# Altium integrated library Linear Technology Power Management LDO Linear Regulators.IntLib: 2339 symbols (part 109 of 131)
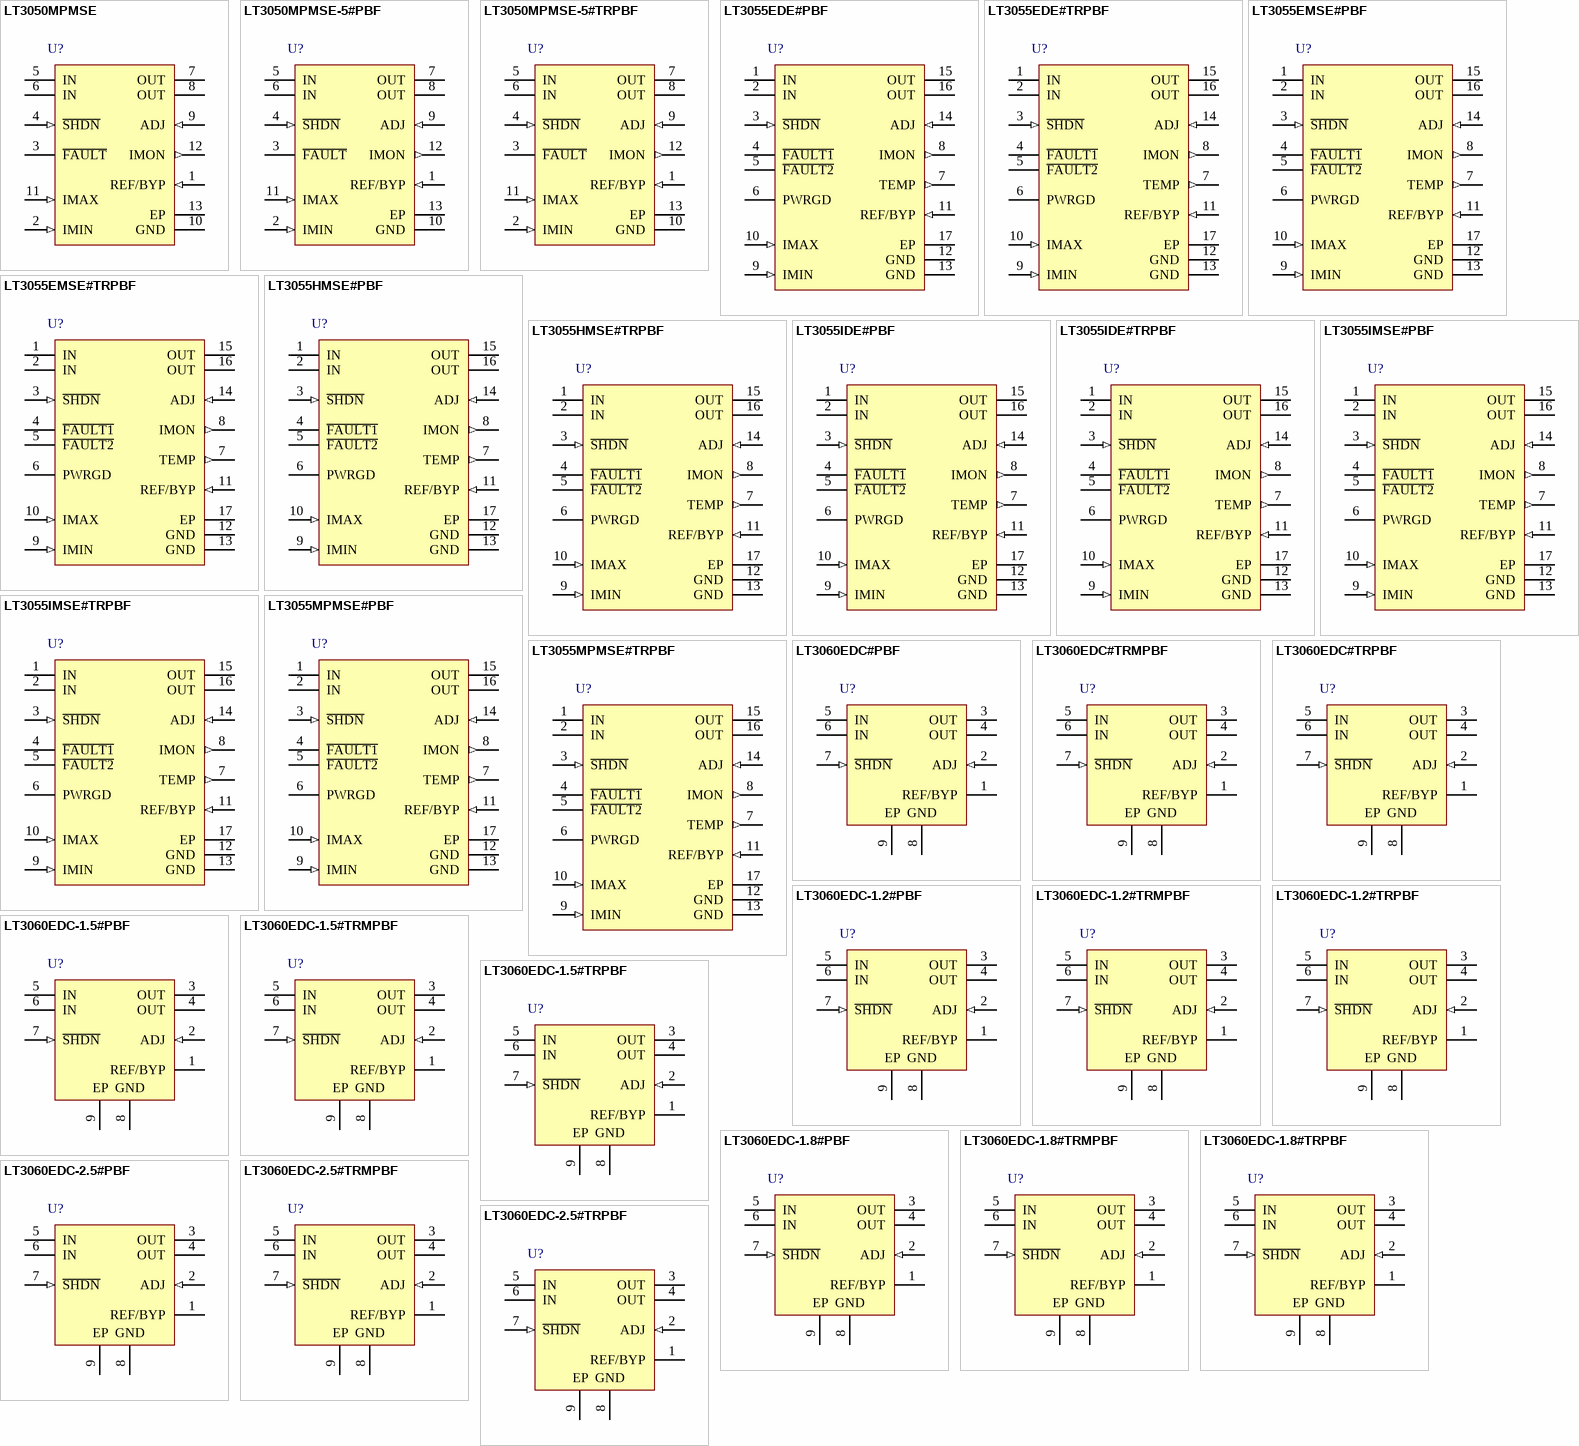
[diagram p177: symbols LT3050MPMSE to LT3060EDC-2.5#TRPBF]

## LT3055IMSE#PBF
designator U?
500 mA, Linear Regulator with Precision Current Limit and Diagnostics, 2 to 45 V Vin, Adjustable Vout, 16-pin SOP (MSE-16-EDP), -40 to 125 degC, Pb-Free; Manufacturer: Linear Technology; PartNumber: LT3055IMSE#PBF; Discrete Pass Element: no; Dropout Voltage(V): 0.35; Iout(mA): 500; Isupply(mA): 11; Noise(uV): 25; Number of Outputs: 1; Output Voltage: Adj; PSRR(dB): 85; Shutdown Current(uA): 0.2; Vin Max(V): 45; Vin Min(V): 2; Vout Max(V): 40; Vout Min(V): 0.6; PackageVersion: Rev. F, 05/2013; PackageReference: MSE-16; PackageDescription: 16-Pin Plastic MSOP, Exposed Die Pad, Body 4.039 x 3 mm, Pitch 0.5 mm; Supplier 1: Digi-Key; Supplier Part Number 1: LT3055IMSE#PBF-ND; Supplier 2: Newark; Supplier Part Number 2: 94W8434; RoHS: TRUE; Mounting Technology: Surface Mount; ComponentLink1Description: Manufacturer URL; ComponentLink1URL: http://www.linear.com/; ComponentLink2Description: Datasheet; ComponentLink2URL: http://cds.linear.com/docs/en/datasheet/3055f.pdf; ComponentLink3Description: Package Specification; ComponentLink3URL: http://cds.linear.com/docs/en/packaging/05081667_F_MSE16.pdf
footprint LT-MSE-16-EDP_N (SOP, 16-Leads, Body 4.039x3mm, Pitch 0.5mm, Thermal Pad 2.95x1.76mm, IPC Medium Density)
footprint LT-MSE-16-EDP_L (SOP, 16-Leads, Body 4.039x3mm, Pitch 0.5mm, Thermal Pad 2.95x1.76mm, IPC High Density)
footprint LT-MSE-16-EDP_M (SOP, 16-Leads, Body 4.039x3mm, Pitch 0.5mm, Thermal Pad 2.95x1.76mm, IPC Low Density)
pins: 1 IN (power) "Input. These pins supply power to the device. The LT3055 requires a local IN bypass capacitor if it is located more than six inches from the main input filter capacitor. In general, battery output impedance rises with (See Datasheet)", 2 IN (power) "Input. These pins supply power to the device. The LT3055 requires a local IN bypass capacitor if it is located more than six inches from the main input filter capacitor. In general, battery output impedance rises with (See Datasheet)", 3 ~{SHDN} (in) "Shutdown. Pulling the S\H\D\N\ pin low puts the LT3055 into a low power state and turns the output off. Drive the S\H\D\N\ pin with either logic or an open-collector/drain with a pull-up resistor. The resistor supplies the (See Datasheet)", 4 ~{FAULT1} (oc) "Fault Indicator Pins. F\A\U\L\T\1\ and F\A\U\L\T\2\ are open-collector logic pins. If the output current drops below the minimum current threshold, F\A\U\L\T\1\ asserts low. If the output current exceeds the current limit (See Datasheet)", 5 ~{FAULT2} (oc) "Fault Indicator Pins. F\A\U\L\T\1\ and F\A\U\L\T\2\ are open-collector logic pins. If the output current drops below the minimum current threshold, F\A\U\L\T\1\ asserts low. If the output current exceeds the current limit (See Datasheet)", 6 PWRGD (hiz) "Power Good Pin. The PWRGD pin is an open-collector output that actively pulls low if the output is less than 90% of the nominal output value. The PWRGD pin is capable of sinking 50uA. There is no internal pull-up resistor, (See Datasheet)", 7 TEMP (out) "Temperature Output. The TEMP pin outputs a voltage proportional to the average junction temperature. The pin voltage is 250mV for 25degreesC and has a slope of 10mV/degreesC.The TEMP pin output impedance is approximately (See Datasheet)", 8 IMON (out) "Output Current Monitor. This pin is the collector of a PNP current mirror that outputs 1/500th of the power PNP current. The IMON pin requires a small (22nF minimum) decoupling capacitor. In applications where the IMON pin (See Datasheet)", 9 IMIN (in) "Minimum Output Current Programming Pin. This pin is the collector of a PNP current mirror that outputs 1/2000th of the power PNP load current. This pin is also the input to the minimum output current fault comparator. (See Datasheet)", 10 IMAX (in) "Precision Current Limit Programming Pin. This pin is the collector of a current mirror PNP that is 1/500th the size of the output power PNP. This pin is also the input to the current limit amplifier. Current limit threshold (See Datasheet)", 11 REF/BYP (in) "Bypass/Soft-Start. Connecting a capacitor from this pin to GND bypasses the LT3055’s reference noise and soft starts the reference. A 10nF bypass capacitor typically reduces output voltage noise to 25uVRMS in a 10Hz t(See Datasheet)", 12 GND (power) "Ground. The exposed pad of the DFN and MSOP packages is an electrical connection to GND. To ensure proper electrical and thermal performance, solder Pin 17 to the PCB ground and tie it directly to Pins 12, 13. Connect the (See Datasheet)", 13 GND (power) "Ground. The exposed pad of the DFN and MSOP packages is an electrical connection to GND. To ensure proper electrical and thermal performance, solder Pin 17 to the PCB ground and tie it directly to Pins 12, 13. Connect the (See Datasheet)", 14 ADJ (in) "Adjust. This pin is the error amplifier’s inverting terminal. The typical bias current of 15nA flows out of the pin (see the ADJ pin Bias Current vs Temperature curve in the Typical Performance Characteristics section)(See Datasheet)", 15 OUT (power) "Output. These pins supply power to the load. Stability requirements demand a minimum 3.3uF ceramic output capacitor with an ESR < 1ohm to prevent oscillations. For output voltages less than 1.2V, a minimum 4.7uF ceramic (See Datasheet)", 16 OUT (power) "Output. These pins supply power to the load. Stability requirements demand a minimum 3.3uF ceramic output capacitor with an ESR < 1ohm to prevent oscillations. For output voltages less than 1.2V, a minimum 4.7uF ceramic (See Datasheet)", 17 EP (power) "Ground. The exposed pad of the DFN and MSOP packages is an electrical connection to GND. To ensure proper electrical and thermal performance, solder Pin 17 to the PCB ground and tie it directly to Pins 12, 13. Connect the (See Datasheet)"

## LT3055IMSE#TRPBF
designator U?
500 mA, Linear Regulator with Precision Current Limit and Diagnostics, 2 to 45 V Vin, Adjustable Vout, 16-pin SOP (MSE-16-EDP), -40 to 125 degC, Pb-Free, Tape and Reel; Manufacturer: Linear Technology; PartNumber: LT3055IMSE#TRPBF; Discrete Pass Element: no; Dropout Voltage(V): 0.35; Iout(mA): 500; Isupply(mA): 11; Noise(uV): 25; Number of Outputs: 1; Output Voltage: Adj; PSRR(dB): 85; Shutdown Current(uA): 0.2; Vin Max(V): 45; Vin Min(V): 2; Vout Max(V): 40; Vout Min(V): 0.6; PackageVersion: Rev. F, 05/2013; PackageReference: MSE-16; PackageDescription: 16-Pin Plastic MSOP, Exposed Die Pad, Body 4.039 x 3 mm, Pitch 0.5 mm; Supplier 1: Digi-Key; Supplier Part Number 1: LT3055IMSE#TRPBF-ND; Supplier 2: Newark; Supplier Part Number 2: 94W8435; Packing: Tape and Reel; RoHS: TRUE; Mounting Technology: Surface Mount; ComponentLink1Description: Manufacturer URL; ComponentLink1URL: http://www.linear.com/; ComponentLink2Description: Datasheet; ComponentLink2URL: http://cds.linear.com/docs/en/datasheet/3055f.pdf; ComponentLink3Description: Package Specification; ComponentLink3URL: http://cds.linear.com/docs/en/packaging/05081667_F_MSE16.pdf
footprint LT-MSE-16-EDP_N (SOP, 16-Leads, Body 4.039x3mm, Pitch 0.5mm, Thermal Pad 2.95x1.76mm, IPC Medium Density)
footprint LT-MSE-16-EDP_L (SOP, 16-Leads, Body 4.039x3mm, Pitch 0.5mm, Thermal Pad 2.95x1.76mm, IPC High Density)
footprint LT-MSE-16-EDP_M (SOP, 16-Leads, Body 4.039x3mm, Pitch 0.5mm, Thermal Pad 2.95x1.76mm, IPC Low Density)
pins: 1 IN (power) "Input. These pins supply power to the device. The LT3055 requires a local IN bypass capacitor if it is located more than six inches from the main input filter capacitor. In general, battery output impedance rises with (See Datasheet)", 2 IN (power) "Input. These pins supply power to the device. The LT3055 requires a local IN bypass capacitor if it is located more than six inches from the main input filter capacitor. In general, battery output impedance rises with (See Datasheet)", 3 ~{SHDN} (in) "Shutdown. Pulling the S\H\D\N\ pin low puts the LT3055 into a low power state and turns the output off. Drive the S\H\D\N\ pin with either logic or an open-collector/drain with a pull-up resistor. The resistor supplies the (See Datasheet)", 4 ~{FAULT1} (oc) "Fault Indicator Pins. F\A\U\L\T\1\ and F\A\U\L\T\2\ are open-collector logic pins. If the output current drops below the minimum current threshold, F\A\U\L\T\1\ asserts low. If the output current exceeds the current limit (See Datasheet)", 5 ~{FAULT2} (oc) "Fault Indicator Pins. F\A\U\L\T\1\ and F\A\U\L\T\2\ are open-collector logic pins. If the output current drops below the minimum current threshold, F\A\U\L\T\1\ asserts low. If the output current exceeds the current limit (See Datasheet)", 6 PWRGD (hiz) "Power Good Pin. The PWRGD pin is an open-collector output that actively pulls low if the output is less than 90% of the nominal output value. The PWRGD pin is capable of sinking 50uA. There is no internal pull-up resistor, (See Datasheet)", 7 TEMP (out) "Temperature Output. The TEMP pin outputs a voltage proportional to the average junction temperature. The pin voltage is 250mV for 25degreesC and has a slope of 10mV/degreesC.The TEMP pin output impedance is approximately (See Datasheet)", 8 IMON (out) "Output Current Monitor. This pin is the collector of a PNP current mirror that outputs 1/500th of the power PNP current. The IMON pin requires a small (22nF minimum) decoupling capacitor. In applications where the IMON pin (See Datasheet)", 9 IMIN (in) "Minimum Output Current Programming Pin. This pin is the collector of a PNP current mirror that outputs 1/2000th of the power PNP load current. This pin is also the input to the minimum output current fault comparator. (See Datasheet)", 10 IMAX (in) "Precision Current Limit Programming Pin. This pin is the collector of a current mirror PNP that is 1/500th the size of the output power PNP. This pin is also the input to the current limit amplifier. Current limit threshold (See Datasheet)", 11 REF/BYP (in) "Bypass/Soft-Start. Connecting a capacitor from this pin to GND bypasses the LT3055’s reference noise and soft starts the reference. A 10nF bypass capacitor typically reduces output voltage noise to 25uVRMS in a 10Hz t(See Datasheet)", 12 GND (power) "Ground. The exposed pad of the DFN and MSOP packages is an electrical connection to GND. To ensure proper electrical and thermal performance, solder Pin 17 to the PCB ground and tie it directly to Pins 12, 13. Connect the (See Datasheet)", 13 GND (power) "Ground. The exposed pad of the DFN and MSOP packages is an electrical connection to GND. To ensure proper electrical and thermal performance, solder Pin 17 to the PCB ground and tie it directly to Pins 12, 13. Connect the (See Datasheet)", 14 ADJ (in) "Adjust. This pin is the error amplifier’s inverting terminal. The typical bias current of 15nA flows out of the pin (see the ADJ pin Bias Current vs Temperature curve in the Typical Performance Characteristics section)(See Datasheet)", 15 OUT (power) "Output. These pins supply power to the load. Stability requirements demand a minimum 3.3uF ceramic output capacitor with an ESR < 1ohm to prevent oscillations. For output voltages less than 1.2V, a minimum 4.7uF ceramic (See Datasheet)", 16 OUT (power) "Output. These pins supply power to the load. Stability requirements demand a minimum 3.3uF ceramic output capacitor with an ESR < 1ohm to prevent oscillations. For output voltages less than 1.2V, a minimum 4.7uF ceramic (See Datasheet)", 17 EP (power) "Ground. The exposed pad of the DFN and MSOP packages is an electrical connection to GND. To ensure proper electrical and thermal performance, solder Pin 17 to the PCB ground and tie it directly to Pins 12, 13. Connect the (See Datasheet)"

## LT3055MPMSE#PBF
designator U?
500 mA, Linear Regulator with Precision Current Limit and Diagnostics, 2 to 45 V Vin, Adjustable Vout, 16-pin SOP (MSE-16-EDP), -55 to 125 degC, Pb-Free; Manufacturer: Linear Technology; PartNumber: LT3055MPMSE#PBF; Discrete Pass Element: no; Dropout Voltage(V): 0.35; Iout(mA): 500; Isupply(mA): 11; Noise(uV): 25; Number of Outputs: 1; Output Voltage: Adj; PSRR(dB): 85; Shutdown Current(uA): 0.2; Vin Max(V): 45; Vin Min(V): 2; Vout Max(V): 40; Vout Min(V): 0.6; PackageVersion: Rev. F, 05/2013; PackageReference: MSE-16; PackageDescription: 16-Pin Plastic MSOP, Exposed Die Pad, Body 4.039 x 3 mm, Pitch 0.5 mm; Supplier 1: Digi-Key; Supplier Part Number 1: LT3055MPMSE#PBF-ND; Supplier 2: Newark; Supplier Part Number 2: 94W8436; RoHS: TRUE; Mounting Technology: Surface Mount; ComponentLink1Description: Manufacturer URL; ComponentLink1URL: http://www.linear.com/; ComponentLink2Description: Datasheet; ComponentLink2URL: http://cds.linear.com/docs/en/datasheet/3055f.pdf; ComponentLink3Description: Package Specification; ComponentLink3URL: http://cds.linear.com/docs/en/packaging/05081667_F_MSE16.pdf
footprint LT-MSE-16-EDP_N (SOP, 16-Leads, Body 4.039x3mm, Pitch 0.5mm, Thermal Pad 2.95x1.76mm, IPC Medium Density)
footprint LT-MSE-16-EDP_L (SOP, 16-Leads, Body 4.039x3mm, Pitch 0.5mm, Thermal Pad 2.95x1.76mm, IPC High Density)
footprint LT-MSE-16-EDP_M (SOP, 16-Leads, Body 4.039x3mm, Pitch 0.5mm, Thermal Pad 2.95x1.76mm, IPC Low Density)
pins: 1 IN (power) "Input. These pins supply power to the device. The LT3055 requires a local IN bypass capacitor if it is located more than six inches from the main input filter capacitor. In general, battery output impedance rises with (See Datasheet)", 2 IN (power) "Input. These pins supply power to the device. The LT3055 requires a local IN bypass capacitor if it is located more than six inches from the main input filter capacitor. In general, battery output impedance rises with (See Datasheet)", 3 ~{SHDN} (in) "Shutdown. Pulling the S\H\D\N\ pin low puts the LT3055 into a low power state and turns the output off. Drive the S\H\D\N\ pin with either logic or an open-collector/drain with a pull-up resistor. The resistor supplies the (See Datasheet)", 4 ~{FAULT1} (oc) "Fault Indicator Pins. F\A\U\L\T\1\ and F\A\U\L\T\2\ are open-collector logic pins. If the output current drops below the minimum current threshold, F\A\U\L\T\1\ asserts low. If the output current exceeds the current limit (See Datasheet)", 5 ~{FAULT2} (oc) "Fault Indicator Pins. F\A\U\L\T\1\ and F\A\U\L\T\2\ are open-collector logic pins. If the output current drops below the minimum current threshold, F\A\U\L\T\1\ asserts low. If the output current exceeds the current limit (See Datasheet)", 6 PWRGD (hiz) "Power Good Pin. The PWRGD pin is an open-collector output that actively pulls low if the output is less than 90% of the nominal output value. The PWRGD pin is capable of sinking 50uA. There is no internal pull-up resistor, (See Datasheet)", 7 TEMP (out) "Temperature Output. The TEMP pin outputs a voltage proportional to the average junction temperature. The pin voltage is 250mV for 25degreesC and has a slope of 10mV/degreesC.The TEMP pin output impedance is approximately (See Datasheet)", 8 IMON (out) "Output Current Monitor. This pin is the collector of a PNP current mirror that outputs 1/500th of the power PNP current. The IMON pin requires a small (22nF minimum) decoupling capacitor. In applications where the IMON pin (See Datasheet)", 9 IMIN (in) "Minimum Output Current Programming Pin. This pin is the collector of a PNP current mirror that outputs 1/2000th of the power PNP load current. This pin is also the input to the minimum output current fault comparator. (See Datasheet)", 10 IMAX (in) "Precision Current Limit Programming Pin. This pin is the collector of a current mirror PNP that is 1/500th the size of the output power PNP. This pin is also the input to the current limit amplifier. Current limit threshold (See Datasheet)", 11 REF/BYP (in) "Bypass/Soft-Start. Connecting a capacitor from this pin to GND bypasses the LT3055’s reference noise and soft starts the reference. A 10nF bypass capacitor typically reduces output voltage noise to 25uVRMS in a 10Hz t(See Datasheet)", 12 GND (power) "Ground. The exposed pad of the DFN and MSOP packages is an electrical connection to GND. To ensure proper electrical and thermal performance, solder Pin 17 to the PCB ground and tie it directly to Pins 12, 13. Connect the (See Datasheet)", 13 GND (power) "Ground. The exposed pad of the DFN and MSOP packages is an electrical connection to GND. To ensure proper electrical and thermal performance, solder Pin 17 to the PCB ground and tie it directly to Pins 12, 13. Connect the (See Datasheet)", 14 ADJ (in) "Adjust. This pin is the error amplifier’s inverting terminal. The typical bias current of 15nA flows out of the pin (see the ADJ pin Bias Current vs Temperature curve in the Typical Performance Characteristics section)(See Datasheet)", 15 OUT (power) "Output. These pins supply power to the load. Stability requirements demand a minimum 3.3uF ceramic output capacitor with an ESR < 1ohm to prevent oscillations. For output voltages less than 1.2V, a minimum 4.7uF ceramic (See Datasheet)", 16 OUT (power) "Output. These pins supply power to the load. Stability requirements demand a minimum 3.3uF ceramic output capacitor with an ESR < 1ohm to prevent oscillations. For output voltages less than 1.2V, a minimum 4.7uF ceramic (See Datasheet)", 17 EP (power) "Ground. The exposed pad of the DFN and MSOP packages is an electrical connection to GND. To ensure proper electrical and thermal performance, solder Pin 17 to the PCB ground and tie it directly to Pins 12, 13. Connect the (See Datasheet)"

## LT3055MPMSE#TRPBF
designator U?
500 mA, Linear Regulator with Precision Current Limit and Diagnostics, 2 to 45 V Vin, Adjustable Vout, 16-pin SOP (MSE-16-EDP), -55 to 125 degC, Pb-Free, Tape and Reel; Manufacturer: Linear Technology; PartNumber: LT3055MPMSE#TRPBF; Discrete Pass Element: no; Dropout Voltage(V): 0.35; Iout(mA): 500; Isupply(mA): 11; Noise(uV): 25; Number of Outputs: 1; Output Voltage: Adj; PSRR(dB): 85; Shutdown Current(uA): 0.2; Vin Max(V): 45; Vin Min(V): 2; Vout Max(V): 40; Vout Min(V): 0.6; PackageVersion: Rev. F, 05/2013; PackageReference: MSE-16; PackageDescription: 16-Pin Plastic MSOP, Exposed Die Pad, Body 4.039 x 3 mm, Pitch 0.5 mm; Supplier 1: Digi-Key; Supplier Part Number 1: LT3055MPMSE#TRPBF-ND; Supplier 2: Newark; Supplier Part Number 2: 94W8437; Packing: Tape and Reel; RoHS: TRUE; Mounting Technology: Surface Mount; ComponentLink1Description: Manufacturer URL; ComponentLink1URL: http://www.linear.com/; ComponentLink2Description: Datasheet; ComponentLink2URL: http://cds.linear.com/docs/en/datasheet/3055f.pdf; ComponentLink3Description: Package Specification; ComponentLink3URL: http://cds.linear.com/docs/en/packaging/05081667_F_MSE16.pdf
footprint LT-MSE-16-EDP_N (SOP, 16-Leads, Body 4.039x3mm, Pitch 0.5mm, Thermal Pad 2.95x1.76mm, IPC Medium Density)
footprint LT-MSE-16-EDP_L (SOP, 16-Leads, Body 4.039x3mm, Pitch 0.5mm, Thermal Pad 2.95x1.76mm, IPC High Density)
footprint LT-MSE-16-EDP_M (SOP, 16-Leads, Body 4.039x3mm, Pitch 0.5mm, Thermal Pad 2.95x1.76mm, IPC Low Density)
pins: 1 IN (power) "Input. These pins supply power to the device. The LT3055 requires a local IN bypass capacitor if it is located more than six inches from the main input filter capacitor. In general, battery output impedance rises with (See Datasheet)", 2 IN (power) "Input. These pins supply power to the device. The LT3055 requires a local IN bypass capacitor if it is located more than six inches from the main input filter capacitor. In general, battery output impedance rises with (See Datasheet)", 3 ~{SHDN} (in) "Shutdown. Pulling the S\H\D\N\ pin low puts the LT3055 into a low power state and turns the output off. Drive the S\H\D\N\ pin with either logic or an open-collector/drain with a pull-up resistor. The resistor supplies the (See Datasheet)", 4 ~{FAULT1} (oc) "Fault Indicator Pins. F\A\U\L\T\1\ and F\A\U\L\T\2\ are open-collector logic pins. If the output current drops below the minimum current threshold, F\A\U\L\T\1\ asserts low. If the output current exceeds the current limit (See Datasheet)", 5 ~{FAULT2} (oc) "Fault Indicator Pins. F\A\U\L\T\1\ and F\A\U\L\T\2\ are open-collector logic pins. If the output current drops below the minimum current threshold, F\A\U\L\T\1\ asserts low. If the output current exceeds the current limit (See Datasheet)", 6 PWRGD (hiz) "Power Good Pin. The PWRGD pin is an open-collector output that actively pulls low if the output is less than 90% of the nominal output value. The PWRGD pin is capable of sinking 50uA. There is no internal pull-up resistor, (See Datasheet)", 7 TEMP (out) "Temperature Output. The TEMP pin outputs a voltage proportional to the average junction temperature. The pin voltage is 250mV for 25degreesC and has a slope of 10mV/degreesC.The TEMP pin output impedance is approximately (See Datasheet)", 8 IMON (out) "Output Current Monitor. This pin is the collector of a PNP current mirror that outputs 1/500th of the power PNP current. The IMON pin requires a small (22nF minimum) decoupling capacitor. In applications where the IMON pin (See Datasheet)", 9 IMIN (in) "Minimum Output Current Programming Pin. This pin is the collector of a PNP current mirror that outputs 1/2000th of the power PNP load current. This pin is also the input to the minimum output current fault comparator. (See Datasheet)", 10 IMAX (in) "Precision Current Limit Programming Pin. This pin is the collector of a current mirror PNP that is 1/500th the size of the output power PNP. This pin is also the input to the current limit amplifier. Current limit threshold (See Datasheet)", 11 REF/BYP (in) "Bypass/Soft-Start. Connecting a capacitor from this pin to GND bypasses the LT3055’s reference noise and soft starts the reference. A 10nF bypass capacitor typically reduces output voltage noise to 25uVRMS in a 10Hz t(See Datasheet)", 12 GND (power) "Ground. The exposed pad of the DFN and MSOP packages is an electrical connection to GND. To ensure proper electrical and thermal performance, solder Pin 17 to the PCB ground and tie it directly to Pins 12, 13. Connect the (See Datasheet)", 13 GND (power) "Ground. The exposed pad of the DFN and MSOP packages is an electrical connection to GND. To ensure proper electrical and thermal performance, solder Pin 17 to the PCB ground and tie it directly to Pins 12, 13. Connect the (See Datasheet)", 14 ADJ (in) "Adjust. This pin is the error amplifier’s inverting terminal. The typical bias current of 15nA flows out of the pin (see the ADJ pin Bias Current vs Temperature curve in the Typical Performance Characteristics section)(See Datasheet)", 15 OUT (power) "Output. These pins supply power to the load. Stability requirements demand a minimum 3.3uF ceramic output capacitor with an ESR < 1ohm to prevent oscillations. For output voltages less than 1.2V, a minimum 4.7uF ceramic (See Datasheet)", 16 OUT (power) "Output. These pins supply power to the load. Stability requirements demand a minimum 3.3uF ceramic output capacitor with an ESR < 1ohm to prevent oscillations. For output voltages less than 1.2V, a minimum 4.7uF ceramic (See Datasheet)", 17 EP (power) "Ground. The exposed pad of the DFN and MSOP packages is an electrical connection to GND. To ensure proper electrical and thermal performance, solder Pin 17 to the PCB ground and tie it directly to Pins 12, 13. Connect the (See Datasheet)"

## LT3060EDC#PBF
designator U?
Micropower, Low Noise, 100 mA Low Dropout, Linear Regulator, 1.6 to 45 V Vin, Adjustable Vout, 8-pin SON (DC8-8), -40 to 125 degC, Pb-Free; Manufacturer: Linear Technology; PartNumber: LT3060EDC#PBF; Discrete Pass Element: no; Dropout Voltage(V): 0.3; Iout(mA): 100; Isupply(mA): 0.04; Noise(uV): 30; Number of Outputs: 1; Output Voltage: Adj; PSRR(dB): 85; Vin Max(V): 45; Vin Min(V): 1.6; Vout Max(V): 44.5; Vout Min(V): 0.6; DatasheetVersion: Rev. B; PackageVersion: Rev. A, 06/2010; PackageReference: DC8-8; PackageDescription: 8-Pin Plastic DFN, Body 2 x 2 mm, Pitch 0.45 mm; Supplier 1: Newark; Supplier Part Number 1: 64R5087; RoHS: TRUE; Shutdown Current(uA): 0.3; Mounting Technology: Surface Mount; ComponentLink1Description: Manufacturer URL; ComponentLink1URL: http://www.linear.com/; ComponentLink2Description: Datasheet; ComponentLink2URL: http://cds.linear.com/docs/en/datasheet/3060fb.pdf; ComponentLink3Description: Package Specification; ComponentLink3URL: http://www.linear.com/docs/en/packaging/DFN_8_05-08-1719.pdf
footprint LT-DC8-8_V (SON, 8-Leads, Body 2x2mm, Pitch 0.45mm, Thermal Pad 1.37x0.64mm)
pins: 1 REF/BYP "Reference/Bypass. Connecting a single capacitor from this pin to GND bypasses the LT3060’s reference noise and soft-starts the reference. A 10nF bypass capacitor typically reduces output voltage noise to 30uVRMS in a 10H(See Datasheet)", 2 ADJ (in) "Adjust. This pin is the error amplifier’s inverting terminal. It’s typical bias current of 15nA flows out of the pin (see curve of ADJ Pin Bias Current vs Temperature in the Typical Performance Characteristics sectio(See Datasheet)", 3 OUT (power) "Output. These pin(s) supply power to the load. Stability requirements demand a minimum 2.2uF ceramic output capacitor to prevent oscillations. Large load transient applications require larger output capacitors to limit peak (See Datasheet)", 4 OUT (power) "Output. These pin(s) supply power to the load. Stability requirements demand a minimum 2.2uF ceramic output capacitor to prevent oscillations. Large load transient applications require larger output capacitors to limit peak (See Datasheet)", 5 IN (power) "Input. These pin(s) supply power to the device. The LT3060 requires a local IN bypass capacitor if it is located more than six inches from the main input filter capacitor. In general, battery output impedance rises with (See Datasheet)", 6 IN (power) "Input. These pin(s) supply power to the device. The LT3060 requires a local IN bypass capacitor if it is located more than six inches from the main input filter capacitor. In general, battery output impedance rises with (See Datasheet)", 7 ~{SHDN} (in) "Shutdown. Pulling the S\H\D\N\ pin low puts the LT3060 into a low power state and turns the output off. Drive the S\H\D\N\ pin with either logic or an open collector/drain with a pull-up resistor. The resistor supplies the (See Datasheet)", 8 GND (power) "Ground. For the adjustable LT3060, connect the bottom of the external resistor divider that sets the output voltage directly to GND for optimum regulation. For the DFN package, tie exposed pad Pin 9 directly to Pin 8 and the (See Datasheet)", 9 EP (power) "Ground. For the adjustable LT3060, connect the bottom of the external resistor divider that sets the output voltage directly to GND for optimum regulation. For the DFN package, tie exposed pad Pin 9 directly to Pin 8 and the (See Datasheet)"

## LT3060EDC#TRMPBF
designator U?
Micropower, Low Noise, 100 mA Low Dropout, Linear Regulator, 1.6 to 45 V Vin, Adjustable Vout, 8-pin SON (DC8-8), -40 to 125 degC, Pb-Free, Mini Tape and Reel; Manufacturer: Linear Technology; PartNumber: LT3060EDC#TRMPBF; Discrete Pass Element: no; Dropout Voltage(V): 0.3; Iout(mA): 100; Isupply(mA): 0.04; Noise(uV): 30; Number of Outputs: 1; Output Voltage: Adj; PSRR(dB): 85; Vin Max(V): 45; Vin Min(V): 1.6; Vout Max(V): 44.5; Vout Min(V): 0.6; DatasheetVersion: Rev. B; PackageVersion: Rev. A, 06/2010; PackageReference: DC8-8; PackageDescription: 8-Pin Plastic DFN, Body 2 x 2 mm, Pitch 0.45 mm; Supplier 1: Digi-Key; Supplier Part Number 1: LT3060EDC#TRMPBFTR-ND; Supplier 2: Digi-Key; Supplier Part Number 2: LT3060EDC#TRMPBFCT-ND; Supplier 3: Digi-Key; Supplier Part Number 3: LT3060EDC#TRMPBFDKR-ND; Supplier 4: Newark; Supplier Part Number 4: 63R6837; Packing: Mini Tape and Reel; RoHS: TRUE; Shutdown Current(uA): 0.3; Mounting Technology: Surface Mount; ComponentLink1Description: Manufacturer URL; ComponentLink1URL: http://www.linear.com/; ComponentLink2Description: Datasheet; ComponentLink2URL: http://cds.linear.com/docs/en/datasheet/3060fb.pdf; ComponentLink3Description: Package Specification; ComponentLink3URL: http://www.linear.com/docs/en/packaging/DFN_8_05-08-1719.pdf
footprint LT-DC8-8_V (SON, 8-Leads, Body 2x2mm, Pitch 0.45mm, Thermal Pad 1.37x0.64mm)
pins: 1 REF/BYP "Reference/Bypass. Connecting a single capacitor from this pin to GND bypasses the LT3060’s reference noise and soft-starts the reference. A 10nF bypass capacitor typically reduces output voltage noise to 30uVRMS in a 10H(See Datasheet)", 2 ADJ (in) "Adjust. This pin is the error amplifier’s inverting terminal. It’s typical bias current of 15nA flows out of the pin (see curve of ADJ Pin Bias Current vs Temperature in the Typical Performance Characteristics sectio(See Datasheet)", 3 OUT (power) "Output. These pin(s) supply power to the load. Stability requirements demand a minimum 2.2uF ceramic output capacitor to prevent oscillations. Large load transient applications require larger output capacitors to limit peak (See Datasheet)", 4 OUT (power) "Output. These pin(s) supply power to the load. Stability requirements demand a minimum 2.2uF ceramic output capacitor to prevent oscillations. Large load transient applications require larger output capacitors to limit peak (See Datasheet)", 5 IN (power) "Input. These pin(s) supply power to the device. The LT3060 requires a local IN bypass capacitor if it is located more than six inches from the main input filter capacitor. In general, battery output impedance rises with (See Datasheet)", 6 IN (power) "Input. These pin(s) supply power to the device. The LT3060 requires a local IN bypass capacitor if it is located more than six inches from the main input filter capacitor. In general, battery output impedance rises with (See Datasheet)", 7 ~{SHDN} (in) "Shutdown. Pulling the S\H\D\N\ pin low puts the LT3060 into a low power state and turns the output off. Drive the S\H\D\N\ pin with either logic or an open collector/drain with a pull-up resistor. The resistor supplies the (See Datasheet)", 8 GND (power) "Ground. For the adjustable LT3060, connect the bottom of the external resistor divider that sets the output voltage directly to GND for optimum regulation. For the DFN package, tie exposed pad Pin 9 directly to Pin 8 and the (See Datasheet)", 9 EP (power) "Ground. For the adjustable LT3060, connect the bottom of the external resistor divider that sets the output voltage directly to GND for optimum regulation. For the DFN package, tie exposed pad Pin 9 directly to Pin 8 and the (See Datasheet)"

## LT3060EDC#TRPBF
designator U?
Micropower, Low Noise, 100 mA Low Dropout, Linear Regulator, 1.6 to 45 V Vin, Adjustable Vout, 8-pin SON (DC8-8), -40 to 125 degC, Pb-Free, Tape and Reel; Manufacturer: Linear Technology; PartNumber: LT3060EDC#TRPBF; Discrete Pass Element: no; Dropout Voltage(V): 0.3; Iout(mA): 100; Isupply(mA): 0.04; Noise(uV): 30; Number of Outputs: 1; Output Voltage: Adj; PSRR(dB): 85; Vin Max(V): 45; Vin Min(V): 1.6; Vout Max(V): 44.5; Vout Min(V): 0.6; DatasheetVersion: Rev. B; PackageVersion: Rev. A, 06/2010; PackageReference: DC8-8; PackageDescription: 8-Pin Plastic DFN, Body 2 x 2 mm, Pitch 0.45 mm; Supplier 1: Digi-Key; Supplier Part Number 1: LT3060EDC#TRPBF-ND; Supplier 2: Newark; Supplier Part Number 2: 63R6838; Packing: Tape and Reel; RoHS: TRUE; Shutdown Current(uA): 0.3; Mounting Technology: Surface Mount; ComponentLink1Description: Manufacturer URL; ComponentLink1URL: http://www.linear.com/; ComponentLink2Description: Datasheet; ComponentLink2URL: http://cds.linear.com/docs/en/datasheet/3060fb.pdf; ComponentLink3Description: Package Specification; ComponentLink3URL: http://www.linear.com/docs/en/packaging/DFN_8_05-08-1719.pdf
footprint LT-DC8-8_V (SON, 8-Leads, Body 2x2mm, Pitch 0.45mm, Thermal Pad 1.37x0.64mm)
pins: 1 REF/BYP "Reference/Bypass. Connecting a single capacitor from this pin to GND bypasses the LT3060’s reference noise and soft-starts the reference. A 10nF bypass capacitor typically reduces output voltage noise to 30uVRMS in a 10H(See Datasheet)", 2 ADJ (in) "Adjust. This pin is the error amplifier’s inverting terminal. It’s typical bias current of 15nA flows out of the pin (see curve of ADJ Pin Bias Current vs Temperature in the Typical Performance Characteristics sectio(See Datasheet)", 3 OUT (power) "Output. These pin(s) supply power to the load. Stability requirements demand a minimum 2.2uF ceramic output capacitor to prevent oscillations. Large load transient applications require larger output capacitors to limit peak (See Datasheet)", 4 OUT (power) "Output. These pin(s) supply power to the load. Stability requirements demand a minimum 2.2uF ceramic output capacitor to prevent oscillations. Large load transient applications require larger output capacitors to limit peak (See Datasheet)", 5 IN (power) "Input. These pin(s) supply power to the device. The LT3060 requires a local IN bypass capacitor if it is located more than six inches from the main input filter capacitor. In general, battery output impedance rises with (See Datasheet)", 6 IN (power) "Input. These pin(s) supply power to the device. The LT3060 requires a local IN bypass capacitor if it is located more than six inches from the main input filter capacitor. In general, battery output impedance rises with (See Datasheet)", 7 ~{SHDN} (in) "Shutdown. Pulling the S\H\D\N\ pin low puts the LT3060 into a low power state and turns the output off. Drive the S\H\D\N\ pin with either logic or an open collector/drain with a pull-up resistor. The resistor supplies the (See Datasheet)", 8 GND (power) "Ground. For the adjustable LT3060, connect the bottom of the external resistor divider that sets the output voltage directly to GND for optimum regulation. For the DFN package, tie exposed pad Pin 9 directly to Pin 8 and the (See Datasheet)", 9 EP (power) "Ground. For the adjustable LT3060, connect the bottom of the external resistor divider that sets the output voltage directly to GND for optimum regulation. For the DFN package, tie exposed pad Pin 9 directly to Pin 8 and the (See Datasheet)"

## LT3060EDC-1.2#PBF
designator U?
Micropower, Low Noise, 100 mA Low Dropout, Linear Regulator, 1.6 to 45 V Vin, 1.2 V Vout, 8-pin SON (DC8-8), -40 to 125 degC, Pb-Free; Manufacturer: Linear Technology; PartNumber: LT3060EDC-1.2#PBF; Discrete Pass Element: no; Dropout Voltage(V): 0.3; Iout(mA): 100; Isupply(mA): 0.04; Noise(uV): 30; Number of Outputs: 1; Output Voltage: 1.2 V; PSRR(dB): 79; Vin Max(V): 45; Vin Min(V): 1.6; DatasheetVersion: Rev. B; PackageVersion: Rev. A, 06/2010; PackageReference: DC8-8; PackageDescription: 8-Pin Plastic DFN, Body 2 x 2 mm, Pitch 0.45 mm; Supplier 1: Farnell; Supplier Part Number 1: 1847658; Supplier 2: Newark; Supplier Part Number 2: 84R7847; RoHS: TRUE; Shutdown Current(uA): 0.3; Mounting Technology: Surface Mount; ComponentLink1Description: Manufacturer URL; ComponentLink1URL: http://www.linear.com/; ComponentLink2Description: Datasheet; ComponentLink2URL: http://cds.linear.com/docs/en/datasheet/3060fb.pdf; ComponentLink3Description: Package Specification; ComponentLink3URL: http://www.linear.com/docs/en/packaging/DFN_8_05-08-1719.pdf
footprint LT-DC8-8_V (SON, 8-Leads, Body 2x2mm, Pitch 0.45mm, Thermal Pad 1.37x0.64mm)
pins: 1 REF/BYP "Reference/Bypass. Connecting a single capacitor from this pin to GND bypasses the LT3060’s reference noise and soft-starts the reference. A 10nF bypass capacitor typically reduces output voltage noise to 30uVRMS in a 10H(See Datasheet)", 2 ADJ (in) "Adjust. This pin is the error amplifier’s inverting terminal. It’s typical bias current of 15nA flows out of the pin (see curve of ADJ Pin Bias Current vs Temperature in the Typical Performance Characteristics sectio(See Datasheet)", 3 OUT (power) "Output. These pin(s) supply power to the load. Stability requirements demand a minimum 2.2uF ceramic output capacitor to prevent oscillations. Large load transient applications require larger output capacitors to limit peak (See Datasheet)", 4 OUT (power) "Output. These pin(s) supply power to the load. Stability requirements demand a minimum 2.2uF ceramic output capacitor to prevent oscillations. Large load transient applications require larger output capacitors to limit peak (See Datasheet)", 5 IN (power) "Input. These pin(s) supply power to the device. The LT3060 requires a local IN bypass capacitor if it is located more than six inches from the main input filter capacitor. In general, battery output impedance rises with (See Datasheet)", 6 IN (power) "Input. These pin(s) supply power to the device. The LT3060 requires a local IN bypass capacitor if it is located more than six inches from the main input filter capacitor. In general, battery output impedance rises with (See Datasheet)", 7 ~{SHDN} (in) "Shutdown. Pulling the S\H\D\N\ pin low puts the LT3060 into a low power state and turns the output off. Drive the S\H\D\N\ pin with either logic or an open collector/drain with a pull-up resistor. The resistor supplies the (See Datasheet)", 8 GND (power) "Ground. For the adjustable LT3060, connect the bottom of the external resistor divider that sets the output voltage directly to GND for optimum regulation. For the DFN package, tie exposed pad Pin 9 directly to Pin 8 and the (See Datasheet)", 9 EP (power) "Ground. For the adjustable LT3060, connect the bottom of the external resistor divider that sets the output voltage directly to GND for optimum regulation. For the DFN package, tie exposed pad Pin 9 directly to Pin 8 and the (See Datasheet)"

## LT3060EDC-1.2#TRMPBF
designator U?
Micropower, Low Noise, 100 mA Low Dropout, Linear Regulator, 1.6 to 45 V Vin, 1.2 V Vout, 8-pin SON (DC8-8), -40 to 125 degC, Pb-Free, Mini Tape and Reel; Manufacturer: Linear Technology; PartNumber: LT3060EDC-1.2#TRMPBF; Discrete Pass Element: no; Dropout Voltage(V): 0.3; Iout(mA): 100; Isupply(mA): 0.04; Noise(uV): 30; Number of Outputs: 1; Output Voltage: 1.2 V; PSRR(dB): 79; Vin Max(V): 45; Vin Min(V): 1.6; DatasheetVersion: Rev. B; PackageVersion: Rev. A, 06/2010; PackageReference: DC8-8; PackageDescription: 8-Pin Plastic DFN, Body 2 x 2 mm, Pitch 0.45 mm; Supplier 1: Digi-Key; Supplier Part Number 1: LT3060EDC-1.2#TRMPBFTR-ND; Supplier 2: Digi-Key; Supplier Part Number 2: LT3060EDC-1.2#TRMPBFCT-ND; Supplier 3: Digi-Key; Supplier Part Number 3: LT3060EDC-1.2#TRMPBFDKR-ND; Supplier 4: Farnell; Supplier Part Number 4: 1847534; Packing: Mini Tape and Reel; RoHS: TRUE; Shutdown Current(uA): 0.3; Mounting Technology: Surface Mount; ComponentLink1Description: Manufacturer URL; ComponentLink1URL: http://www.linear.com/; ComponentLink2Description: Datasheet; ComponentLink2URL: http://cds.linear.com/docs/en/datasheet/3060fb.pdf; ComponentLink3Description: Package Specification; ComponentLink3URL: http://www.linear.com/docs/en/packaging/DFN_8_05-08-1719.pdf
footprint LT-DC8-8_V (SON, 8-Leads, Body 2x2mm, Pitch 0.45mm, Thermal Pad 1.37x0.64mm)
pins: 1 REF/BYP "Reference/Bypass. Connecting a single capacitor from this pin to GND bypasses the LT3060’s reference noise and soft-starts the reference. A 10nF bypass capacitor typically reduces output voltage noise to 30uVRMS in a 10H(See Datasheet)", 2 ADJ (in) "Adjust. This pin is the error amplifier’s inverting terminal. It’s typical bias current of 15nA flows out of the pin (see curve of ADJ Pin Bias Current vs Temperature in the Typical Performance Characteristics sectio(See Datasheet)", 3 OUT (power) "Output. These pin(s) supply power to the load. Stability requirements demand a minimum 2.2uF ceramic output capacitor to prevent oscillations. Large load transient applications require larger output capacitors to limit peak (See Datasheet)", 4 OUT (power) "Output. These pin(s) supply power to the load. Stability requirements demand a minimum 2.2uF ceramic output capacitor to prevent oscillations. Large load transient applications require larger output capacitors to limit peak (See Datasheet)", 5 IN (power) "Input. These pin(s) supply power to the device. The LT3060 requires a local IN bypass capacitor if it is located more than six inches from the main input filter capacitor. In general, battery output impedance rises with (See Datasheet)", 6 IN (power) "Input. These pin(s) supply power to the device. The LT3060 requires a local IN bypass capacitor if it is located more than six inches from the main input filter capacitor. In general, battery output impedance rises with (See Datasheet)", 7 ~{SHDN} (in) "Shutdown. Pulling the S\H\D\N\ pin low puts the LT3060 into a low power state and turns the output off. Drive the S\H\D\N\ pin with either logic or an open collector/drain with a pull-up resistor. The resistor supplies the (See Datasheet)", 8 GND (power) "Ground. For the adjustable LT3060, connect the bottom of the external resistor divider that sets the output voltage directly to GND for optimum regulation. For the DFN package, tie exposed pad Pin 9 directly to Pin 8 and the (See Datasheet)", 9 EP (power) "Ground. For the adjustable LT3060, connect the bottom of the external resistor divider that sets the output voltage directly to GND for optimum regulation. For the DFN package, tie exposed pad Pin 9 directly to Pin 8 and the (See Datasheet)"

## LT3060EDC-1.2#TRPBF
designator U?
Micropower, Low Noise, 100 mA Low Dropout, Linear Regulator, 1.6 to 45 V Vin, 1.2 V Vout, 8-pin SON (DC8-8), -40 to 125 degC, Pb-Free, Tape and Reel; Manufacturer: Linear Technology; PartNumber: LT3060EDC-1.2#TRPBF; Discrete Pass Element: no; Dropout Voltage(V): 0.3; Iout(mA): 100; Isupply(mA): 0.04; Noise(uV): 30; Number of Outputs: 1; Output Voltage: 1.2 V; PSRR(dB): 79; Vin Max(V): 45; Vin Min(V): 1.6; DatasheetVersion: Rev. B; PackageVersion: Rev. A, 06/2010; PackageReference: DC8-8; PackageDescription: 8-Pin Plastic DFN, Body 2 x 2 mm, Pitch 0.45 mm; Supplier 1: Digi-Key; Supplier Part Number 1: LT3060EDC-1.2#TRPBF-ND; Packing: Tape and Reel; RoHS: TRUE; Shutdown Current(uA): 0.3; Mounting Technology: Surface Mount; ComponentLink1Description: Manufacturer URL; ComponentLink1URL: http://www.linear.com/; ComponentLink2Description: Datasheet; ComponentLink2URL: http://cds.linear.com/docs/en/datasheet/3060fb.pdf; ComponentLink3Description: Package Specification; ComponentLink3URL: http://www.linear.com/docs/en/packaging/DFN_8_05-08-1719.pdf
footprint LT-DC8-8_V (SON, 8-Leads, Body 2x2mm, Pitch 0.45mm, Thermal Pad 1.37x0.64mm)
pins: 1 REF/BYP "Reference/Bypass. Connecting a single capacitor from this pin to GND bypasses the LT3060’s reference noise and soft-starts the reference. A 10nF bypass capacitor typically reduces output voltage noise to 30uVRMS in a 10H(See Datasheet)", 2 ADJ (in) "Adjust. This pin is the error amplifier’s inverting terminal. It’s typical bias current of 15nA flows out of the pin (see curve of ADJ Pin Bias Current vs Temperature in the Typical Performance Characteristics sectio(See Datasheet)", 3 OUT (power) "Output. These pin(s) supply power to the load. Stability requirements demand a minimum 2.2uF ceramic output capacitor to prevent oscillations. Large load transient applications require larger output capacitors to limit peak (See Datasheet)", 4 OUT (power) "Output. These pin(s) supply power to the load. Stability requirements demand a minimum 2.2uF ceramic output capacitor to prevent oscillations. Large load transient applications require larger output capacitors to limit peak (See Datasheet)", 5 IN (power) "Input. These pin(s) supply power to the device. The LT3060 requires a local IN bypass capacitor if it is located more than six inches from the main input filter capacitor. In general, battery output impedance rises with (See Datasheet)", 6 IN (power) "Input. These pin(s) supply power to the device. The LT3060 requires a local IN bypass capacitor if it is located more than six inches from the main input filter capacitor. In general, battery output impedance rises with (See Datasheet)", 7 ~{SHDN} (in) "Shutdown. Pulling the S\H\D\N\ pin low puts the LT3060 into a low power state and turns the output off. Drive the S\H\D\N\ pin with either logic or an open collector/drain with a pull-up resistor. The resistor supplies the (See Datasheet)", 8 GND (power) "Ground. For the adjustable LT3060, connect the bottom of the external resistor divider that sets the output voltage directly to GND for optimum regulation. For the DFN package, tie exposed pad Pin 9 directly to Pin 8 and the (See Datasheet)", 9 EP (power) "Ground. For the adjustable LT3060, connect the bottom of the external resistor divider that sets the output voltage directly to GND for optimum regulation. For the DFN package, tie exposed pad Pin 9 directly to Pin 8 and the (See Datasheet)"

## LT3060EDC-1.5#PBF
designator U?
Micropower, Low Noise, 100 mA Low Dropout, Linear Regulator, 1.6 to 45 V Vin, 1.5 V Vout, 8-pin SON (DC8-8), -40 to 125 degC, Pb-Free; Manufacturer: Linear Technology; PartNumber: LT3060EDC-1.5#PBF; Discrete Pass Element: no; Dropout Voltage(V): 0.3; Iout(mA): 100; Isupply(mA): 0.04; Noise(uV): 30; Number of Outputs: 1; Output Voltage: 1.5 V; PSRR(dB): 77; Vin Max(V): 45; Vin Min(V): 1.6; DatasheetVersion: Rev. B; PackageVersion: Rev. A, 06/2010; PackageReference: DC8-8; PackageDescription: 8-Pin Plastic DFN, Body 2 x 2 mm, Pitch 0.45 mm; Supplier 1: Farnell; Supplier Part Number 1: 1847659; Supplier 2: Newark; Supplier Part Number 2: 84R7848; RoHS: TRUE; Shutdown Current(uA): 0.3; Mounting Technology: Surface Mount; ComponentLink1Description: Manufacturer URL; ComponentLink1URL: http://www.linear.com/; ComponentLink2Description: Datasheet; ComponentLink2URL: http://cds.linear.com/docs/en/datasheet/3060fb.pdf; ComponentLink3Description: Package Specification; ComponentLink3URL: http://www.linear.com/docs/en/packaging/DFN_8_05-08-1719.pdf
footprint LT-DC8-8_V (SON, 8-Leads, Body 2x2mm, Pitch 0.45mm, Thermal Pad 1.37x0.64mm)
pins: 1 REF/BYP "Reference/Bypass. Connecting a single capacitor from this pin to GND bypasses the LT3060’s reference noise and soft-starts the reference. A 10nF bypass capacitor typically reduces output voltage noise to 30uVRMS in a 10H(See Datasheet)", 2 ADJ (in) "Adjust. This pin is the error amplifier’s inverting terminal. It’s typical bias current of 15nA flows out of the pin (see curve of ADJ Pin Bias Current vs Temperature in the Typical Performance Characteristics sectio(See Datasheet)", 3 OUT (power) "Output. These pin(s) supply power to the load. Stability requirements demand a minimum 2.2uF ceramic output capacitor to prevent oscillations. Large load transient applications require larger output capacitors to limit peak (See Datasheet)", 4 OUT (power) "Output. These pin(s) supply power to the load. Stability requirements demand a minimum 2.2uF ceramic output capacitor to prevent oscillations. Large load transient applications require larger output capacitors to limit peak (See Datasheet)", 5 IN (power) "Input. These pin(s) supply power to the device. The LT3060 requires a local IN bypass capacitor if it is located more than six inches from the main input filter capacitor. In general, battery output impedance rises with (See Datasheet)", 6 IN (power) "Input. These pin(s) supply power to the device. The LT3060 requires a local IN bypass capacitor if it is located more than six inches from the main input filter capacitor. In general, battery output impedance rises with (See Datasheet)", 7 ~{SHDN} (in) "Shutdown. Pulling the S\H\D\N\ pin low puts the LT3060 into a low power state and turns the output off. Drive the S\H\D\N\ pin with either logic or an open collector/drain with a pull-up resistor. The resistor supplies the (See Datasheet)", 8 GND (power) "Ground. For the adjustable LT3060, connect the bottom of the external resistor divider that sets the output voltage directly to GND for optimum regulation. For the DFN package, tie exposed pad Pin 9 directly to Pin 8 and the (See Datasheet)", 9 EP (power) "Ground. For the adjustable LT3060, connect the bottom of the external resistor divider that sets the output voltage directly to GND for optimum regulation. For the DFN package, tie exposed pad Pin 9 directly to Pin 8 and the (See Datasheet)"